# Altium integrated library LT1619.IntLib: 1 symbol
Pins are listed as number, name and electrical type; pins without a type are passive.

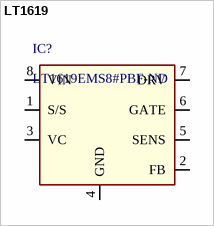
[diagram p0: symbol LT1619]

## LT1619
designator IC?, comment LT1619EMS8#PBF-ND
ID: LT1619EMS8#PBF-ND; PRICE: 4.77000; BUY_LINK: http://www.digikey.com/product-detail/en/LT1619EMS8%23PBF/LT1619EMS8%23PBF-ND/891216; PDF: http://www.linear.com/docs/1485
footprint MSOP8
pins: 1 S/S, 2 FB, 3 VC, 4 GND, 5 SENS, 6 GATE, 7 DRV, 8 VIN